# Altium footprint library Ribbon Cable Header.PcbLib: 1 footprints
Each footprint in its own frame and in the unit in brackets; x right, y up, seen from the top. Pads: shape width x height; smd on the part's side, far side on the other; paste and mask are expansions set on the pad; w line width, h text height; cw(c..) or ccw(c..) is an arc to the next point about the centre after c.
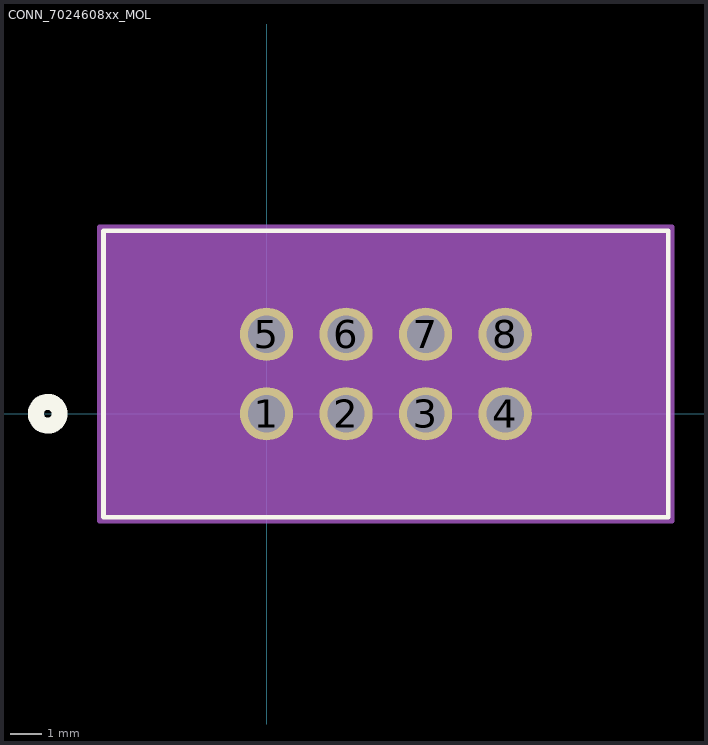
[diagram p0: the footprint, top view; thin cyan lines are the x and y axes]

## CONN_7024608xx_MOL [mil]
pads (8):
  round 67 / inner round 60 / far side round 67 hole 47 paste-33.5 mask+0: 1(0,0) 2(100,0) 3(200,0) 4(300,0) 5(0,100) 6(100,100) 7(200,100) 8(300,100)
Top Overlay:
  circle w20: c-275,0 r15
  lines w6: -205,-130 505,-130 505,230 -205,230 -205,-130
Bottom Overlay:
  circle w20: c-275,0 r15
Mechanical 13:
  circle w20: c0,-75 r15
  lines w1: -200,-125 500,-125 500,225 -200,225 -200,-125
Mechanical 15:
  region: 510,235 -210,235 -210,-135 510,-135
  lines w6: -210,-135 -210,235 510,235 510,-135 -210,-135